# EAGLE library part MAG3110 (library SparkFun-Sensors)
Freescale MAG3110 3-Axis Digital (I2C) Magnetometer Freescale’s MAG3110 is a small, low-power, digital 3-axis magnetometer. The device can be used in conjunction with a 3-axis accelerometer to produce orientation independent accurate compass heading information. It features a standard I2C serial interface output and smart embedded functions. Datasheet <https://cdn.sparkfun.com/datasheets/Sensors/Magneto/MAG3110_v9.2.pdf> SparkFun Products SparkFun Triple Axis Magnetometer Breakout - MAG3110 <https://www.sparkfun.com/products/12670> (SEN-12670)
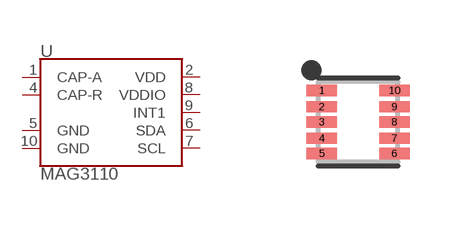
[diagram p9: symbol with the pads of DFN-10; footprint DFN-10]

Designator prefix U

## MAG3110 (PROD_ID: IC-10404)  [DFN-10]
1  CAP-A
2  VDD
4  CAP-R
5  GND
6  SDA
7  SCL
8  VDDIO
9  INT1
10  GND

## Footprint DFN-10 (pad centres in mm)
10-pin Dual-Flat No-Lead (DFN) (2.0 x 2.0 mm) (1:1 footprint) Datasheet <https://cdn.sparkfun.com/datasheets/Sensors/Magneto/MAG3110_v9.2.pdf> Specifications: Pin Count: 10 Dimensions: 2.0 x 2.0 x 0.85 mm Pitch: 0.4 mm Devices Using: MAG3110
smd 0.762 x 0.279: 1 -0.91,0.787; 2 -0.91,0.381; 3 -0.91,0; 4 -0.91,-0.406; 5 -0.91,-0.787; 6 0.91,-0.787; 7 0.91,-0.406; 8 0.91,0; 9 0.91,0.381; 10 0.91,0.787